# Altium schematic symbol library cy.SchLib: 51 symbols
Pins are listed as number, name and electrical type; pins without a type are passive.

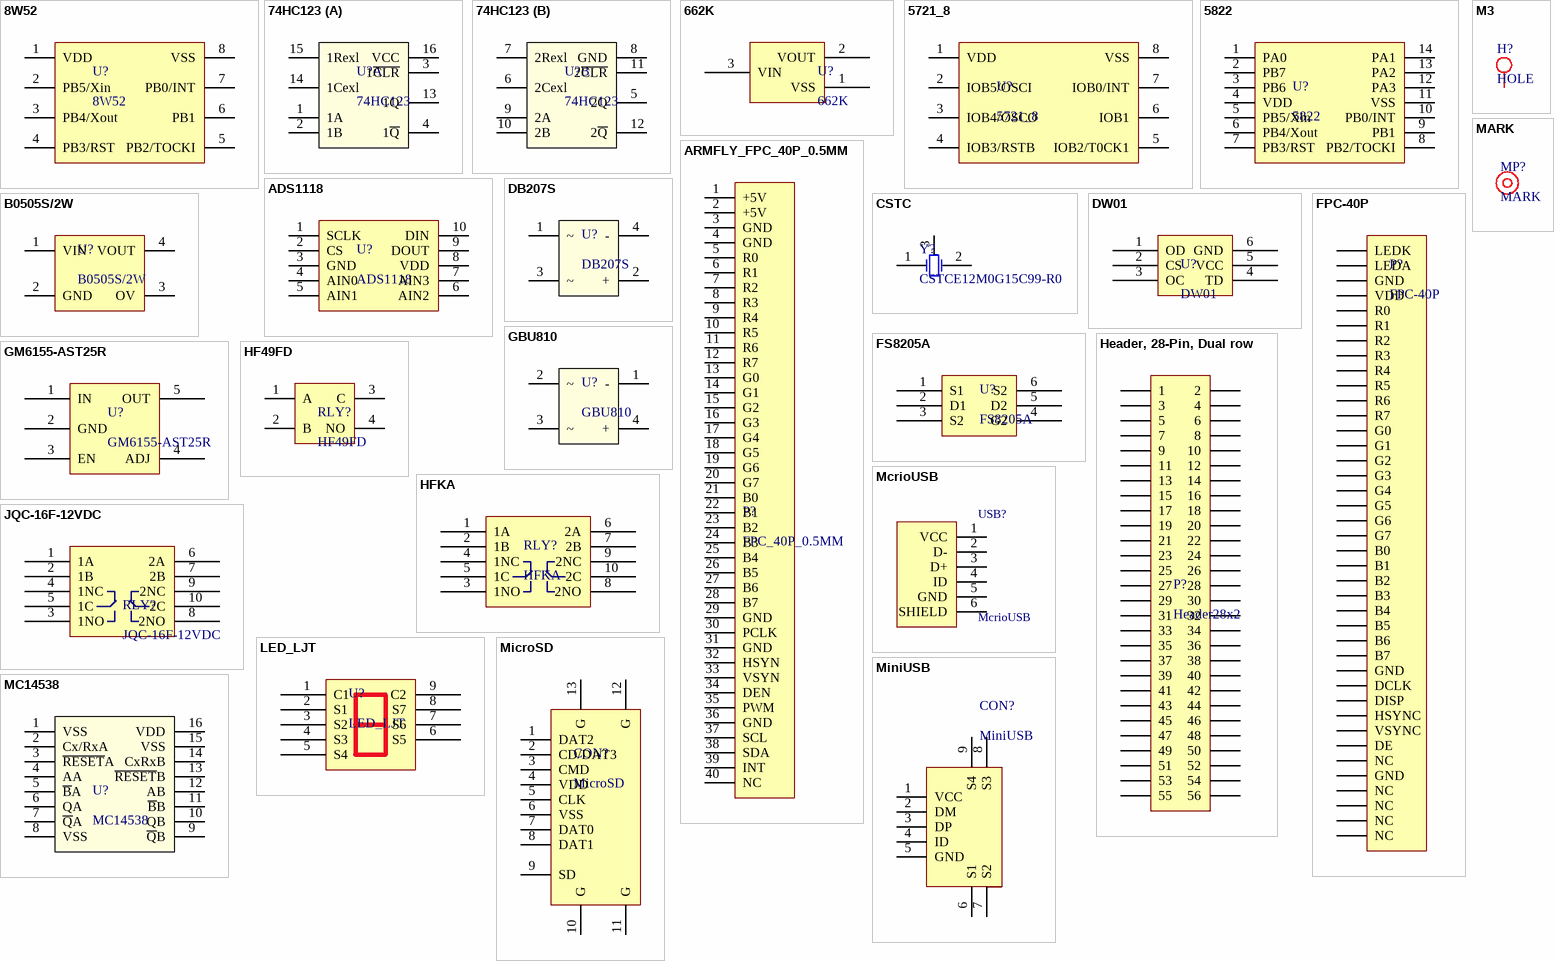
[diagram p0: symbols 8W52 to MiniUSB]

## 8W52
designator U?
pins: 1 VDD, 2 PB5/Xin, 3 PB4/Xout, 4 PB3/RST, 5 PB2/TOCKI, 6 PB1, 7 PB0/INT, 8 VSS

## 74HC123
designator U?
part A pins: 1 1A, 2 1B, 3 1~{CLR}, 4 1~{Q}, 13 1Q, 14 1Cexl, 15 1Rexl, 16 VCC
part B pins: 5 2Q, 6 2Cexl, 7 2Rexl, 8 GND, 9 2A, 10 2B, 11 2~{CLR}, 12 2~{Q}

## 662K
designator U?
pins: 1 VSS, 2 VOUT, 3 VIN

## 5721_8
designator U?
pins: 1 VDD, 2 IOB5/OSCI, 3 IOB4/OSCO, 4 IOB3/RSTB, 5 IOB2/T0CK1, 6 IOB1, 7 IOB0/INT, 8 VSS

## 5822
designator U?
pins: 1 PA0, 2 PB7, 3 PB6, 4 VDD, 5 PB5/Xin, 6 PB4/Xout, 7 PB3/RST, 8 PB2/TOCKI, 9 PB1, 10 PB0/INT, 11 VSS, 12 PA3, 13 PA2, 14 PA1

## ADS1118
designator U?
pins: 1 SCLK, 2 CS, 3 GND, 4 AIN0, 5 AIN1, 6 AIN2, 7 AIN3, 8 VDD, 9 DOUT, 10 DIN

## ARMFLY_FPC_40P_0.5MM
designator P?, comment FPC_40P_0.5MM
pins: 1 +5V, 2 +5V, 3 GND, 4 GND, 5 R0, 6 R1, 7 R2, 8 R3, 9 R4, 10 R5, 11 R6, 12 R7, 13 G0, 14 G1, 15 G2, 16 G3, 17 G4, 18 G5, 19 G6, 20 G7, 21 B0, 22 B1, 23 B2, 24 B3, 25 B4, 26 B5, 27 B6, 28 B7, 29 GND, 30 PCLK, 31 GND, 32 HSYN, 33 VSYN, 34 DEN, 35 PWM, 36 GND, 37 SCL, 38 SDA, 39 INT, 40 NC

## B0505S/2W
designator U?
pins: 1 VIN, 2 GND, 3 OV, 4 VOUT

## CSTC
designator Y?, comment CSTCE12M0G15C99-R0
pins: 1 OSC1, 2 OSC2, 3 OSC3

## DB207S
designator U?
pins: 1 ~, 2 +, 3 ~, 4 -

## DW01
designator U?
pins: 1 OD, 2 CS, 3 OC, 4 TD, 5 VCC, 6 GND

## FPC-40P
designator P?
pins: 1 LEDK, 2 LEDA, 3 GND, 4 VDD, 5 R0, 6 R1, 7 R2, 8 R3, 9 R4, 10 R5, 11 R6, 12 R7, 13 G0, 14 G1, 15 G2, 16 G3, 17 G4, 18 G5, 19 G6, 20 G7, 21 B0, 22 B1, 23 B2, 24 B3, 25 B4, 26 B5, 27 B6, 28 B7, 29 GND, 30 DCLK, 31 DISP, 32 HSYNC, 33 VSYNC, 34 DE, 35 NC, 36 GND, 37 NC, 38 NC, 39 NC, 40 NC

## FS8205A
designator U?
pins: 1 S1, 2 D1, 3 S2, 4 G2, 5 D2, 6 S2

## GBU810
designator U?
pins: 1 -, 2 ~, 3 ~, 4 +

## GM6155-AST25R
designator U?
pins: 1 IN, 2 GND, 3 EN, 4 ADJ, 5 OUT

## Header, 28-Pin, Dual row
designator P?, comment Header28x2
pins: 1, 2, 3, 4, 5, 6, 7, 8, 9, 10, 11, 12, 13, 14, 15, 16, 17, 18, 19, 20, 21, 22, 23, 24, 25, 26, 27, 28, 29, 30, 31, 32, 33, 34, 35, 36, 37, 38, 39, 40, 41, 42, 43, 44, 45, 46, 47, 48, 49, 50, 51, 52, 53, 54, 55, 56

## HF49FD
designator RLY?
pins: 1 A, 2 B, 3 C, 4 NO

## HFKA
designator RLY?
pins: 1 1A, 2 1B, 3 1NO, 4 1NC, 5 1C, 6 2A, 7 2B, 8 2NO, 9 2NC, 10 2C

## JQC-16F-12VDC
designator RLY?
pins: 1 1A, 2 1B, 3 1NO, 4 1NC, 5 1C, 6 2A, 7 2B, 8 2NO, 9 2NC, 10 2C

## LED_LJT
designator U?
pins: 1 C1, 2 S1, 3 S2, 4 S3, 5 S4, 6 S5, 7 S6, 8 S7, 9 C2

## M3
designator H?, comment HOLE
pins: 0

## MARK
designator MP?

## MC14538
designator U?
pins: 1 VSS, 2 Cx/RxA, 3 ~{RESET}A, 4 AA, 5 ~{B}A, 6 QA, 7 ~{Q}A, 8 VSS, 9 ~{Q}B, 10 QB, 11 ~{B}B, 12 AB, 13 ~{RESET}B, 14 CxRxB, 15 VSS, 16 VDD

## McrioUSB
designator USB?
footprint USB-4PINSMD
footprint MIRCO
pins: 1 VCC, 2 D-, 3 D+, 4 ID, 5 GND, 6 SHIELD

## MicroSD
designator CON?
pins: 1 DAT2, 2 CD/DAT3, 3 CMD, 4 VDD, 5 CLK, 6 VSS, 7 DAT0, 8 DAT1, 9 SD, 10 G, 11 G, 12 G, 13 G

## MiniUSB
designator CON?
pins: 1 VCC, 2 DM, 3 DP, 4 ID, 5 GND, 6 S1, 7 S2, 8 S3, 9 S4

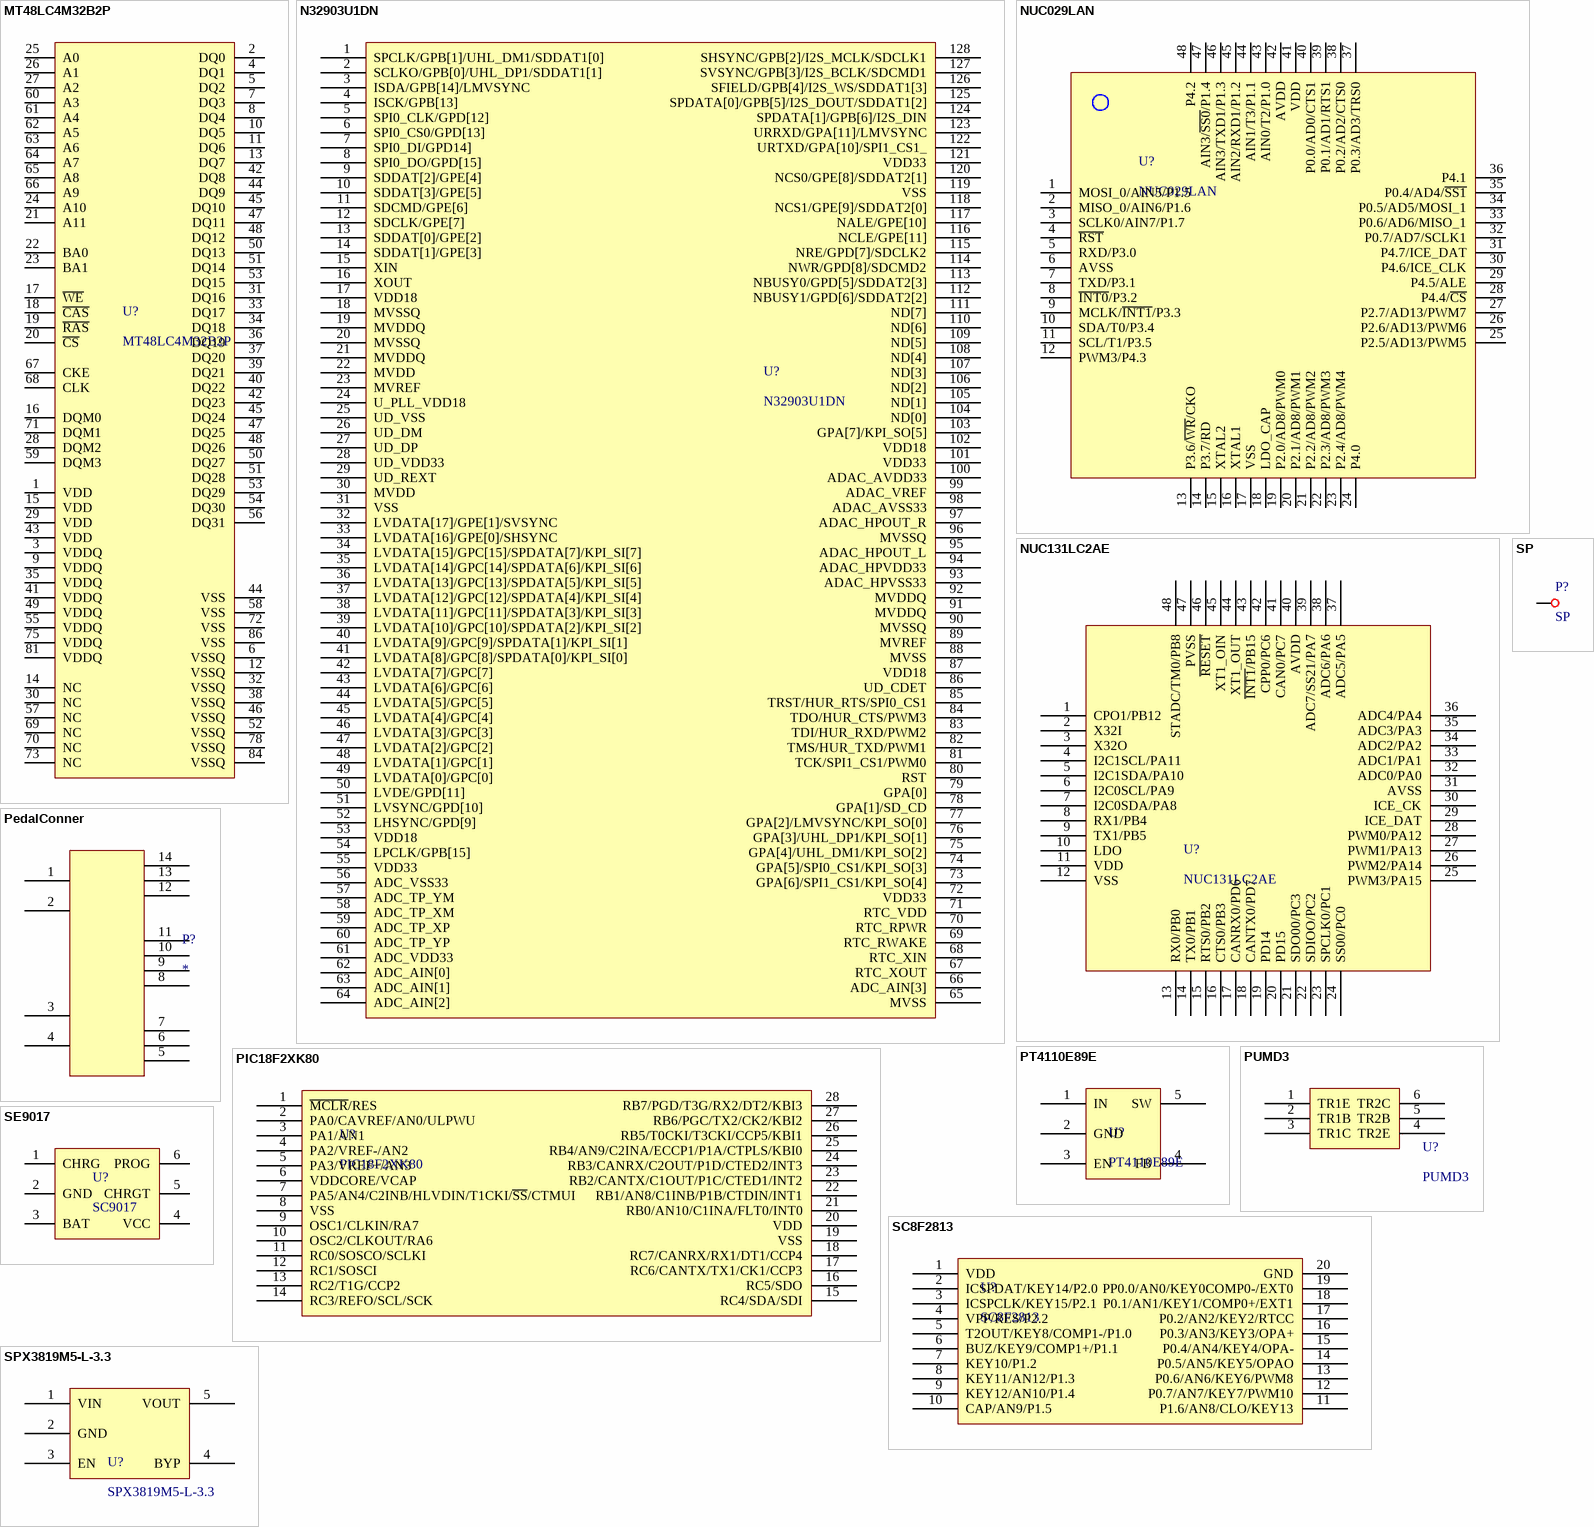
[diagram p1: symbols MT48LC4M32B2P to SPX3819M5-L-3.3]

## MT48LC4M32B2P
designator U?
pins: 1 VDD, 2 DQ0, 3 VDDQ, 4 DQ1, 5 DQ2, 6 VSSQ, 7 DQ3, 8 DQ4, 9 VDDQ, 10 DQ5, 11 DQ6, 12 VSSQ, 13 DQ7, 14 NC, 15 VDD, 16 DQM0, 17 ~{WE}, 18 ~{CAS}, 19 ~{RAS}, 20 ~{CS}, 21 A11, 22 BA0, 23 BA1, 24 A10, 25 A0, 26 A1, 27 A2, 28 DQM2, 29 VDD, 30 NC, 31 DQ16, 32 VSSQ, 33 DQ17, 34 DQ18, 35 VDDQ, 36 DQ19, 37 DQ20, 38 VSSQ, 39 DQ21, 40 DQ22, 41 VDDQ, 42 DQ8, 42 DQ23, 43 VDD, 44 DQ9, 44 VSS, 45 DQ10, 45 DQ24, 46 VSSQ, 47 DQ11, 47 DQ25, 48 DQ12, 48 DQ26, 49 VDDQ, 50 DQ13, 50 DQ27, 51 DQ14, 51 DQ28, 52 VSSQ, 53 DQ15, 53 DQ29, 54 DQ30, 55 VDDQ, 56 DQ31, 57 NC, 58 VSS, 59 DQM3, 60 A3, 61 A4, 62 A5, 63 A6, 64 A7, 65 A8, 66 A9, 67 CKE, 68 CLK, 69 NC, 70 NC, 71 DQM1, 72 VSS, 73 NC, 75 VDDQ, 78 VSSQ, 81 VDDQ, 84 VSSQ, 86 VSS

## N32903U1DN
designator U?
footprint LC-LQFP-128_14x14x04P
pins: 1 SPCLK/GPB[1]/UHL_DM1/SDDAT1[0], 2 SCLKO/GPB[0]/UHL_DP1/SDDAT1[1], 3 ISDA/GPB[14]/LMVSYNC, 4 ISCK/GPB[13], 5 SPI0_CLK/GPD[12], 6 SPI0_CS0/GPD[13], 7 SPI0_DI/GPD14], 8 SPI0_DO/GPD[15], 9 SDDAT[2]/GPE[4], 10 SDDAT[3]/GPE[5], 11 SDCMD/GPE[6], 12 SDCLK/GPE[7], 13 SDDAT[0]/GPE[2], 14 SDDAT[1]/GPE[3], 15 XIN, 16 XOUT, 17 VDD18, 18 MVSSQ, 19 MVDDQ, 20 MVSSQ, 21 MVDDQ, 22 MVDD, 23 MVREF, 24 U_PLL_VDD18, 25 UD_VSS, 26 UD_DM, 27 UD_DP, 28 UD_VDD33, 29 UD_REXT, 30 MVDD, 31 VSS, 32 LVDATA[17]/GPE[1]/SVSYNC, 33 LVDATA[16]/GPE[0]/SHSYNC, 34 LVDATA[15]/GPC[15]/SPDATA[7]/KPI_SI[7], 35 LVDATA[14]/GPC[14]/SPDATA[6]/KPI_SI[6], 36 LVDATA[13]/GPC[13]/SPDATA[5]/KPI_SI[5], 37 LVDATA[12]/GPC[12]/SPDATA[4]/KPI_SI[4], 38 LVDATA[11]/GPC[11]/SPDATA[3]/KPI_SI[3], 39 LVDATA[10]/GPC[10]/SPDATA[2]/KPI_SI[2], 40 LVDATA[9]/GPC[9]/SPDATA[1]/KPI_SI[1], 41 LVDATA[8]/GPC[8]/SPDATA[0]/KPI_SI[0], 42 LVDATA[7]/GPC[7], 43 LVDATA[6]/GPC[6], 44 LVDATA[5]/GPC[5], 45 LVDATA[4]/GPC[4], 46 LVDATA[3]/GPC[3], 47 LVDATA[2]/GPC[2], 48 LVDATA[1]/GPC[1], 49 LVDATA[0]/GPC[0], 50 LVDE/GPD[11], 51 LVSYNC/GPD[10], 52 LHSYNC/GPD[9], 53 VDD18, 54 LPCLK/GPB[15], 55 VDD33, 56 ADC_VSS33, 57 ADC_TP_YM, 58 ADC_TP_XM, 59 ADC_TP_XP, 60 ADC_TP_YP, 61 ADC_VDD33, 62 ADC_AIN[0], 63 ADC_AIN[1], 64 ADC_AIN[2], 65 MVSS, 66 ADC_AIN[3], 67 RTC_XOUT, 68 RTC_XIN, 69 RTC_RWAKE, 70 RTC_RPWR, 71 RTC_VDD, 72 VDD33, 73 GPA[6]/SPI1_CS1/KPI_SO[4], 74 GPA[5]/SPI0_CS1/KPI_SO[3], 75 GPA[4]/UHL_DM1/KPI_SO[2], 76 GPA[3]/UHL_DP1/KPI_SO[1], 77 GPA[2]/LMVSYNC/KPI_SO[0], 78 GPA[1]/SD_CD, 79 GPA[0], 80 RST, 81 TCK/SPI1_CS1/PWM0, 82 TMS/HUR_TXD/PWM1, 83 TDI/HUR_RXD/PWM2, 84 TDO/HUR_CTS/PWM3, 85 TRST/HUR_RTS/SPI0_CS1, 86 UD_CDET, 87 VDD18, 88 MVSS, 89 MVREF, 90 MVSSQ, 91 MVDDQ, 92 MVDDQ, 93 ADAC_HPVSS33, 94 ADAC_HPVDD33, 95 ADAC_HPOUT_L, 96 MVSSQ, 97 ADAC_HPOUT_R, 98 ADAC_AVSS33, 99 ADAC_VREF, 100 ADAC_AVDD33, 101 VDD33, 102 VDD18, 103 GPA[7]/KPI_SO[5], 104 ND[0], 105 ND[1], 106 ND[2], 107 ND[3], 108 ND[4], 109 ND[5], 110 ND[6], 111 ND[7], 112 NBUSY1/GPD[6]/SDDAT2[2], 113 NBUSY0/GPD[5]/SDDAT2[3], 114 NWR/GPD[8]/SDCMD2, 115 NRE/GPD[7]/SDCLK2, 116 NCLE/GPE[11], 117 NALE/GPE[10], 118 NCS1/GPE[9]/SDDAT2[0], 119 VSS, 120 NCS0/GPE[8]/SDDAT2[1], 121 VDD33, 122 URTXD/GPA[10]/SPI1_CS1_, 123 URRXD/GPA[11]/LMVSYNC, 124 SPDATA[1]/GPB[6]/I2S_DIN, 125 SPDATA[0]/GPB[5]/I2S_DOUT/SDDAT1[2], 126 SFIELD/GPB[4]/I2S_WS/SDDAT1[3], 127 SVSYNC/GPB[3]/I2S_BCLK/SDCMD1, 128 SHSYNC/GPB[2]/I2S_MCLK/SDCLK1

## NUC029LAN
designator U?
pins: 1 MOSI_0/AIN5/P1.5, 2 MISO_0/AIN6/P1.6, 3 SCLK0/AIN7/P1.7, 4 ~{RST}, 5 RXD/P3.0, 6 AVSS, 7 TXD/P3.1, 8 ~{INT0}/P3.2, 9 MCLK/~{INT1}/P3.3, 10 SDA/T0/P3.4, 11 SCL/T1/P3.5, 12 PWM3/P4.3, 13 P3.6/~{WR}/CKO, 14 P3.7/RD, 15 XTAL2, 16 XTAL1, 17 VSS, 18 LDO_CAP, 19 P2.0/AD8/PWM0, 20 P2.1/AD8/PWM1, 21 P2.2/AD8/PWM2, 22 P2.3/AD8/PWM3, 23 P2.4/AD8/PWM4, 24 P4.0, 25 P2.5/AD13/PWM5, 26 P2.6/AD13/PWM6, 27 P2.7/AD13/PWM7, 28 P4.4/~{CS}, 29 P4.5/ALE, 30 P4.6/ICE_CLK, 31 P4.7/ICE_DAT, 32 P0.7/AD7/SCLK1, 33 P0.6/AD6/MISO_1, 34 P0.5/AD5/MOSI_1, 35 P0.4/AD4/~{SS1}, 36 P4.1, 37 P0.3/AD3/TRS0, 38 P0.2/AD2/CTS0, 39 P0.1/AD1/RTS1, 40 P0.0/AD0/CTS1, 41 VDD, 42 AVDD, 43 AIN0/T2/P1.0, 44 AIN1/T3/P1.1, 45 AIN2/RXD1/P1.2, 46 AIN3/TXD1/P1.3, 47 AIN3/~{SS0}/P1.4, 48 P4.2

## NUC131LC2AE
designator U?
pins: 1 CPO1/PB12, 2 X32I, 3 X32O, 4 I2C1SCL/PA11, 5 I2C1SDA/PA10, 6 I2C0SCL/PA9, 7 I2C0SDA/PA8, 8 RX1/PB4, 9 TX1/PB5, 10 LDO, 11 VDD, 12 VSS, 13 RX0/PB0, 14 TX0/PB1, 15 RTS0/PB2, 16 CTS0/PB3, 17 CANRX0/PD6, 18 CANTX0/PD7, 19 PD14, 20 PD15, 21 SDO00/PC3, 22 SDIOO/PC2, 23 SPCLK0/PC1, 24 SS00/PC0, 25 PWM3/PA15, 26 PWM2/PA14, 27 PWM1/PA13, 28 PWM0/PA12, 29 ICE_DAT, 30 ICE_CK, 31 AVSS, 32 ADC0/PA0, 33 ADC1/PA1, 34 ADC2/PA2, 35 ADC3/PA3, 36 ADC4/PA4, 37 ADC5/PA5, 38 ADC6/PA6, 39 ADC7/SS21/PA7, 40 AVDD, 41 CAN0/PC7, 42 CPP0/PC6, 43 ~{INT1}/PB15, 44 XT1_OUT, 45 XT1_OIN, 46 ~{RESET}, 47 PVSS, 48 STADC/TM0/PB8

## PedalConner
designator P?
pins: 1, 2, 3, 4, 5, 6, 7, 8, 9, 10, 11, 12, 13, 14

## PIC18F2XK80
designator U?
pins: 1 ~{MCLR}/RES, 2 PA0/CAVREF/AN0/ULPWU, 3 PA1/AN1, 4 PA2/VREF-/AN2, 5 PA3/VREF+/AN3, 6 VDDCORE/VCAP, 7 PA5/AN4/C2INB/HLVDIN/T1CKI/~{SS}/CTMUI, 8 VSS, 9 OSC1/CLKIN/RA7, 10 OSC2/CLKOUT/RA6, 11 RC0/SOSCO/SCLKI, 12 RC1/SOSCI, 13 RC2/T1G/CCP2, 14 RC3/REFO/SCL/SCK, 15 RC4/SDA/SDI, 16 RC5/SDO, 17 RC6/CANTX/TX1/CK1/CCP3, 18 RC7/CANRX/RX1/DT1/CCP4, 19 VSS, 20 VDD, 21 RB0/AN10/C1INA/FLT0/INT0, 22 RB1/AN8/C1INB/P1B/CTDIN/INT1, 23 RB2/CANTX/C1OUT/P1C/CTED1/INT2, 24 RB3/CANRX/C2OUT/P1D/CTED2/INT3, 25 RB4/AN9/C2INA/ECCP1/P1A/CTPLS/KBI0, 26 RB5/T0CKI/T3CKI/CCP5/KBI1, 27 RB6/PGC/TX2/CK2/KBI2, 28 RB7/PGD/T3G/RX2/DT2/KBI3

## PT4110E89E
designator U?
pins: 1 IN, 2 GND, 3 EN, 4 FB, 5 SW

## PUMD3
designator U?
pins: 1 TR1E, 2 TR1B, 3 TR1C, 4 TR2E, 5 TR2B, 6 TR2C

## SC8F2813
designator U?
pins: 1 VDD, 2 ICSPDAT/KEY14/P2.0, 3 ICSPCLK/KEY15/P2.1, 4 VPP/RES/P2.2, 5 T2OUT/KEY8/COMP1-/P1.0, 6 BUZ/KEY9/COMP1+/P1.1, 7 KEY10/P1.2, 8 KEY11/AN12/P1.3, 9 KEY12/AN10/P1.4, 10 CAP/AN9/P1.5, 11 P1.6/AN8/CLO/KEY13, 12 P0.7/AN7/KEY7/PWM10, 13 P0.6/AN6/KEY6/PWM8, 14 P0.5/AN5/KEY5/OPAO, 15 P0.4/AN4/KEY4/OPA-, 16 P0.3/AN3/KEY3/OPA+, 17 P0.2/AN2/KEY2/RTCC, 18 P0.1/AN1/KEY1/COMP0+/EXT1, 19 PP0.0/AN0/KEY0COMP0-/EXT0, 20 GND

## SE9017
designator U?, comment SC9017
pins: 1 CHRG, 2 GND, 3 BAT, 4 VCC, 5 CHRGT, 6 PROG

## SP
designator P?
pins: 0

## SPX3819M5-L-3.3
designator U?
pins: 1 VIN, 2 GND, 3 EN, 4 BYP, 5 VOUT

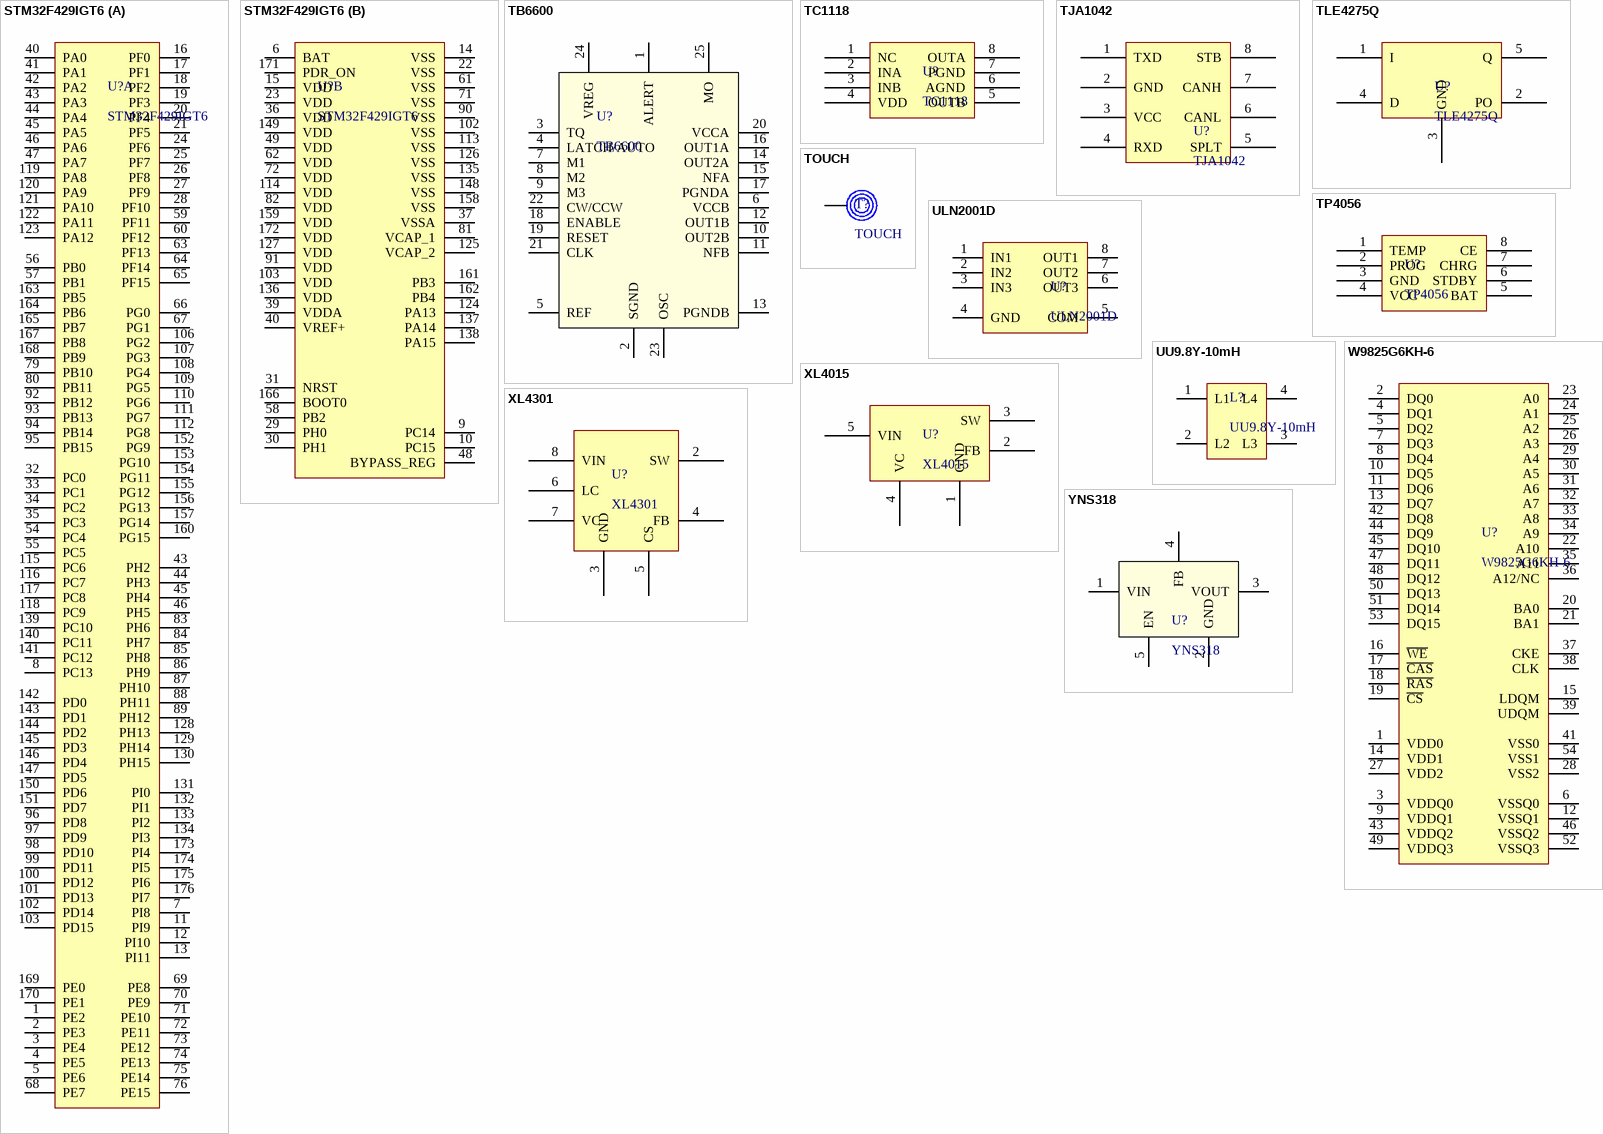
[diagram p2: symbols STM32F429IGT6 to YNS318]

## STM32F429IGT6
designator U?
part A pins: 1 PE2, 2 PE3, 3 PE4, 4 PE5, 5 PE6, 7 PI8, 8 PC13, 11 PI9, 12 PI10, 13 PI11, 16 PF0, 17 PF1, 18 PF2, 19 PF3, 20 PF4, 21 PF5, 24 PF6, 25 PF7, 26 PF8, 27 PF9, 28 PF10, 32 PC0, 33 PC1, 34 PC2, 35 PC3, 40 PA0, 41 PA1, 42 PA2, 43 PA3, 43 PH2, 44 PA4, 44 PH3, 45 PA5, 45 PH4, 46 PA6, 46 PH5, 47 PA7, 54 PC4, 55 PC5, 56 PB0, 57 PB1, 59 PF11, 60 PF12, 63 PF13, 64 PF14, 65 PF15, 66 PG0, 67 PG1, 68 PE7, 69 PE8, 70 PE9, 71 PE10, 72 PE11, 73 PE12, 74 PE13, 75 PE14, 76 PE15, 79 PB10, 80 PB11, 83 PH6, 84 PH7, 85 PH8, 86 PH9, 87 PH10, 88 PH11, 89 PH12, 92 PB12, 93 PB13, 94 PB14, 95 PB15, 96 PD8, 97 PD9, 98 PD10, 99 PD11, 100 PD12, 101 PD13, 102 PD14, 103 PD15, 106 PG2, 107 PG3, 108 PG4, 109 PG5, 110 PG6, 111 PG7, 112 PG8, 115 PC6, 116 PC7, 117 PC8, 118 PC9, 119 PA8, 120 PA9, 121 PA10, 122 PA11, 123 PA12, 128 PH13, 129 PH14, 130 PH15, 131 PI0, 132 PI1, 133 PI2, 134 PI3, 139 PC10, 140 PC11, 141 PC12, 142 PD0, 143 PD1, 144 PD2, 145 PD3, 146 PD4, 147 PD5, 150 PD6, 151 PD7, 152 PG9, 153 PG10, 154 PG11, 155 PG12, 156 PG13, 157 PG14, 160 PG15, 163 PB5, 164 PB6, 165 PB7, 167 PB8, 168 PB9, 169 PE0, 170 PE1, 173 PI4, 174 PI5, 175 PI6, 176 PI7
part B pins: 6 BAT, 9 PC14, 10 PC15, 14 VSS, 15 VDD, 22 VSS, 23 VDD, 29 PH0, 30 PH1, 31 NRST, 36 VDD, 37 VSSA, 39 VDDA, 40 VREF+, 48 BYPASS_REG, 49 VDD, 58 PB2, 61 VSS, 62 VDD, 71 VSS, 72 VDD, 81 VCAP_1, 82 VDD, 90 VSS, 91 VDD, 102 VSS, 103 VDD, 113 VSS, 114 VDD, 124 PA13, 125 VCAP_2, 126 VSS, 127 VDD, 135 VSS, 136 VDD, 137 PA14, 138 PA15, 148 VSS, 149 VDD, 158 VSS, 159 VDD, 161 PB3, 162 PB4, 166 BOOT0, 171 PDR_ON, 172 VDD

## TB6600
designator U?
pins: 1 ALERT, 2 SGND, 3 TQ, 4 LATCH/AUTO, 5 REF, 6 VCCB, 7 M1, 8 M2, 9 M3, 10 OUT2B, 11 NFB, 12 OUT1B, 13 PGNDB, 14 OUT2A, 15 NFA, 16 OUT1A, 17 PGNDA, 18 ENABLE, 19 RESET, 20 VCCA, 21 CLK, 22 CW/CCW, 23 OSC, 24 VREG, 25 MO

## TC1118
designator U?
pins: 1 NC, 2 INA, 3 INB, 4 VDD, 5 OUTB, 6 AGND, 7 PGND, 8 OUTA

## TJA1042
designator U?
pins: 1 TXD, 2 GND, 3 VCC, 4 RXD, 5 SPLT, 6 CANL, 7 CANH, 8 STB

## TLE4275Q
designator U?
pins: 1 I, 2 PO, 3 GND, 4 D, 5 Q

## TOUCH
designator T?
pins: 1

## TP4056
designator U?
pins: 1 TEMP, 2 PROG, 3 GND, 4 VCC, 5 BAT, 6 STDBY, 7 CHRG, 8 CE

## ULN2001D
designator U?
pins: 1 IN1, 2 IN2, 3 IN3, 4 GND, 5 COM, 6 OUT3, 7 OUT2, 8 OUT1

## UU9.8Y-10mH
designator L?
pins: 1 L1, 2 L2, 3 L3, 4 L4

## W9825G6KH-6
designator U?
pins: 1 VDD0, 2 DQ0, 3 VDDQ0, 4 DQ1, 5 DQ2, 6 VSSQ0, 7 DQ3, 8 DQ4, 9 VDDQ1, 10 DQ5, 11 DQ6, 12 VSSQ1, 13 DQ7, 14 VDD1, 15 LDQM, 16 ~{WE}, 17 ~{CAS}, 18 ~{RAS}, 19 ~{CS}, 20 BA0, 21 BA1, 22 A10, 23 A0, 24 A1, 25 A2, 26 A3, 27 VDD2, 28 VSS2, 29 A4, 30 A5, 31 A6, 32 A7, 33 A8, 34 A9, 35 A11, 36 A12/NC, 37 CKE, 38 CLK, 39 UDQM, 41 VSS0, 42 DQ8, 43 VDDQ2, 44 DQ9, 45 DQ10, 46 VSSQ2, 47 DQ11, 48 DQ12, 49 VDDQ3, 50 DQ13, 51 DQ14, 52 VSSQ3, 53 DQ15, 54 VSS1

## XL4015
designator U?
pins: 1 GND, 2 FB, 3 SW, 4 VC, 5 VIN

## XL4301
designator U?
pins: 2 SW, 3 GND, 4 FB, 5 CS, 6 LC, 7 VC, 8 VIN

## YNS318
designator U?
pins: 1 VIN, 2 GND, 3 VOUT, 4 FB, 5 EN